# Altium footprint library SOP.PcbLib: 50 footprints (part 4 of 4)
Each footprint in its own frame and in the unit in brackets; x right, y up, seen from the top. Pads: shape width x height; smd on the part's side, far side on the other; paste and mask are expansions set on the pad; w line width, h text height; cw(c..) or ccw(c..) is an arc to the next point about the centre after c.
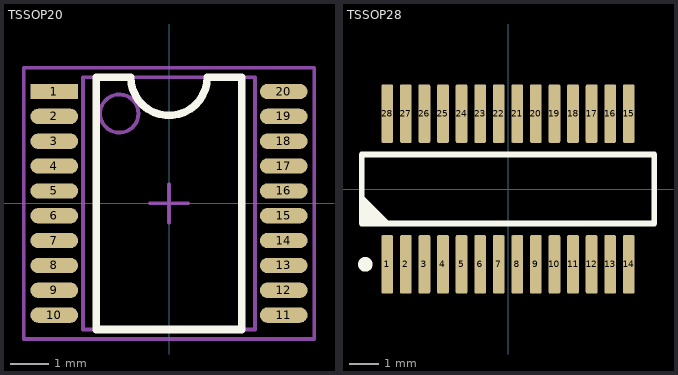
[diagram p3: the footprints below, top view; thin cyan lines are the x and y axes]

## TSSOP20 [mm] "TSOP, 20-Leads, Body 6,6x4,5mm (max), Pitch 0,65mm, IPC Medium Density"
height 1.2
pads (20):
  rect 1.25x0.4 smd mask+0.05: 1(-3,2.925)
  oval 1.25x0.4 smd mask+0.05: 2(-3,2.275) 3(-3,1.625) 4(-3,0.975) 5(-3,0.325) 6(-3,-0.325) 7(-3,-0.975) 8(-3,-1.625) 9(-3,-2.275) 10(-3,-2.925) 11(3,-2.925) 12(3,-2.275) 13(3,-1.625) 14(3,-0.975) 15(3,-0.325) 16(3,0.325) 17(3,0.975) 18(3,1.625) 19(3,2.275) 20(3,2.925)
Top Overlay:
  lines w0.2: -1.9,-3.3 -1.9,3.3 -1,3.3 ccw(c0,3.3) 1,3.3 1.9,3.3 1.9,-3.3 -1.9,-3.3
Mechanical 13:
  circle w0.1: c-1.3,2.35 r0.5
  lines w0.1: -2.25,-3.3 -2.25,3.3 2.25,3.3 2.25,-3.3 -2.25,-3.3
Mechanical 15:
  lines w0.1: -0.5,0 0.5,0 ; 0,-0.5 0,0.5 ; -3.8,-3.55 -3.8,3.55 3.8,3.55 3.8,-3.55 -3.8,-3.55
3D body "User Library-TSSOP-20.step": height 1.11, standoff -0.09, extent -3.275,-3.3 3.275,3.3

## TSSOP28 [mm] "SSOP; 28 Leads; Body Width 3.9 mm; Pitch 0.635 mm"
height 1.75
pads (28):
  rrect25% 0.4x2 smd: 1(-4.127,-2.575) 2(-3.492,-2.575) 3(-2.857,-2.575) 4(-2.222,-2.575) 5(-1.587,-2.575) 6(-0.953,-2.575) 7(-0.318,-2.575) 8(0.318,-2.575) 9(0.953,-2.575) 10(1.587,-2.575) 11(2.222,-2.575) 12(2.857,-2.575) 13(3.492,-2.575) 14(4.127,-2.575) 15(4.127,2.575) 16(3.492,2.575) 17(2.857,2.575) 18(2.222,2.575) 19(1.587,2.575) 20(0.953,2.575) 21(0.318,2.575) 22(-0.318,2.575) 23(-0.953,2.575) 24(-1.587,2.575) 25(-2.222,2.575) 26(-2.857,2.575) 27(-3.492,2.575) 28(-4.127,2.575)
Top Overlay:
  circle w0.25: c-4.878,-2.575 r0.125
  region: -5,-1.175 -5,-0.175 -4,-1.175
  lines w0.2: -5,-1.175 5,-1.175 5,1.175 -5,1.175 -5,-1.175